# Altium schematic symbol library Ceramic Capacitor.SchLib: 1 symbol
Pins are listed as number, name and electrical type; pins without a type are passive.

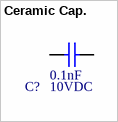
[diagram p0: symbol Ceramic Cap.]

## Ceramic Cap.
designator C?  Rated Voltage: 10VDC  Capacitance: 0.1nF  (hidden comment: *)
Lead Capacitor C0G_EIA_ with Capacitance: 22pF and Rated Voltage: 100Vdc; MF: Murata; MP: RDE5C2A220J0M1H03A; Availability: Unavailable; Price: None; Package: Radial Murata; SnapEDA_Link: https://www.snapeda.com/parts/RDE5C2A220J0M1H03A/Murata/view-part/4545539/?ref=snap
footprint Ceramic Cap.
pins: 1, 2